# EAGLE library part TP4056_TH (library TP4056 charging module)
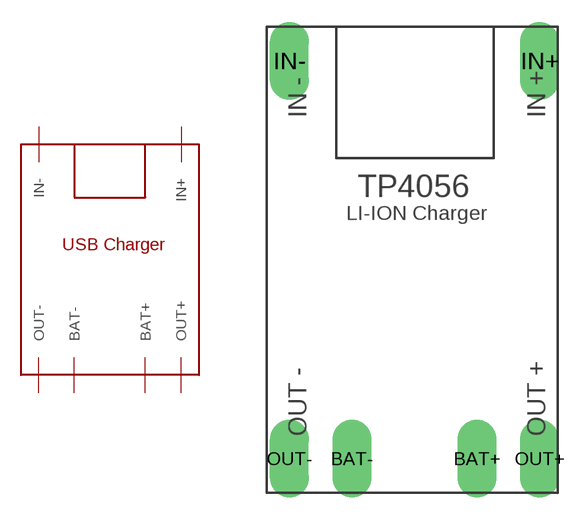
[diagram p1: symbol with the pads of TP4056_TH; footprint TP4056_TH]

Designator prefix -

## TP4056_TH  [TP4056_TH]
BAT+  BAT+
BAT-  BAT-
IN+  IN+
IN-  IN-
OUT+  OUT+
OUT-  OUT-

## Footprint TP4056_TH (pad centres in mm)
drill 0.9 pad 2.184 long: BAT+ 4.128,-11.43; BAT- -2.857,-11.43; IN+ 7.62,10.795; IN- -6.35,10.795; OUT+ 7.62,-11.43; OUT- -6.35,-11.43